# EAGLE library part ARTEMIS_V1 (library Module-Pads)
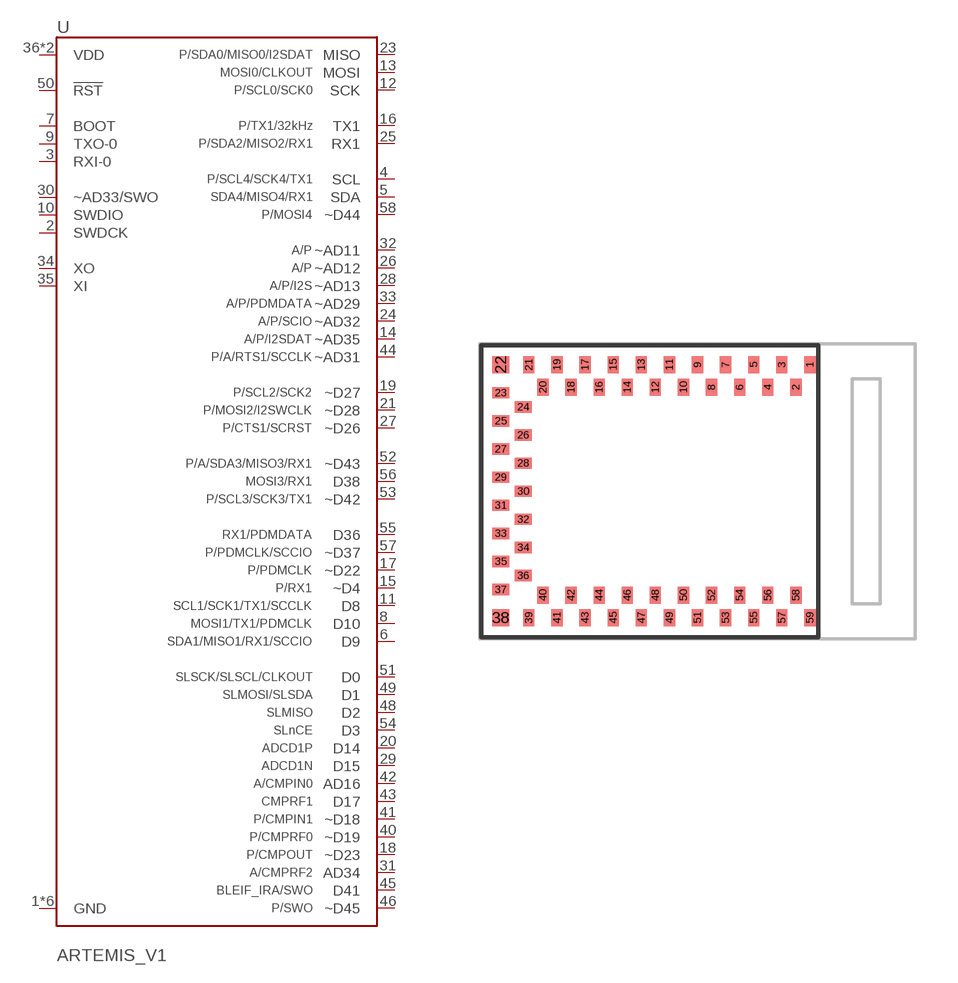
[diagram p1: symbol with the pads of ARTEMIS; footprint ARTEMIS]

Designator prefix U

## ARTEMIS_V1 (PROD_ID: SUB-14359)  [ARTEMIS]
1  GND
2  SWDCK
3  RXI-0
4  SCL
5  SDA
6  D9
7  BOOT
8  D10
9  TXO-0
10  SWDIO
11  D8
12  SCK
13  MOSI
14  ~AD35
15  ~D4
16  TX1
17  ~D22
18  ~D23
19  ~D27
20  D14
21  ~D28
22  GND
23  MISO
24  ~AD32
25  RX1
26  ~AD12
27  ~D26
28  ~AD13
29  D15
30  ~AD33/SWO
31  AD34
32  ~AD11
33  ~AD29
34  XO
35  XI
36  VDD
37  VDD
38  GND
39  GND
40  ~D19
41  ~D18
42  AD16
43  D17
44  ~AD31
45  D41
46  ~D45
47  GND
48  D2
49  D1
50  !RST
51  D0
52  ~D43
53  ~D42
54  D3
55  D36
56  D38
57  ~D37
58  ~D44
59  GND

## Footprint ARTEMIS (pad centres in mm)
smd 0.4 x 0.6: 1 4,4.5; 2 3.5,3.7; 3 3,4.5; 4 2.5,3.7; 5 2,4.5; 6 1.5,3.7; 7 1,4.5; 8 0.5,3.7; 9 0,4.5; 10 -0.5,3.7; 11 -1,4.5; 12 -1.5,3.7; 13 -2,4.5; 14 -2.5,3.7; 15 -3,4.5; 16 -3.5,3.7; 17 -4,4.5; 18 -4.5,3.7; 19 -5,4.5; 20 -5.5,3.7; 21 -6,4.5; 39 -6,-4.5; 40 -5.5,-3.7; 41 -5,-4.5; 42 -4.5,-3.7; 43 -4,-4.5; 44 -3.5,-3.7; 45 -3,-4.5; 46 -2.5,-3.7; 47 -2,-4.5; 48 -1.5,-3.7; 49 -1,-4.5; 50 -0.5,-3.7; 51 0,-4.5; 52 0.5,-3.7; 53 1,-4.5; 54 1.5,-3.7; 55 2,-4.5; 56 2.5,-3.7; 57 3,-4.5; 58 3.5,-3.7; 59 4,-4.5
smd 0.6 x 0.6: 22 -7,4.5; 38 -7,-4.5
smd 0.6 x 0.4: 23 -7,3.5; 24 -6.2,3; 25 -7,2.5; 26 -6.2,2; 27 -7,1.5; 28 -6.2,1; 29 -7,0.5; 30 -6.2,0; 31 -7,-0.5; 32 -6.2,-1; 33 -7,-1.5; 34 -6.2,-2; 35 -7,-2.5; 36 -6.2,-3; 37 -7,-3.5